# Altium footprint library CH28-2032.PcbLib: 1 footprints
Each footprint in its own frame and in the unit in brackets; x right, y up, seen from the top. Pads: shape width x height; smd on the part's side, far side on the other; paste and mask are expansions set on the pad; w line width, h text height; cw(c..) or ccw(c..) is an arc to the next point about the centre after c.
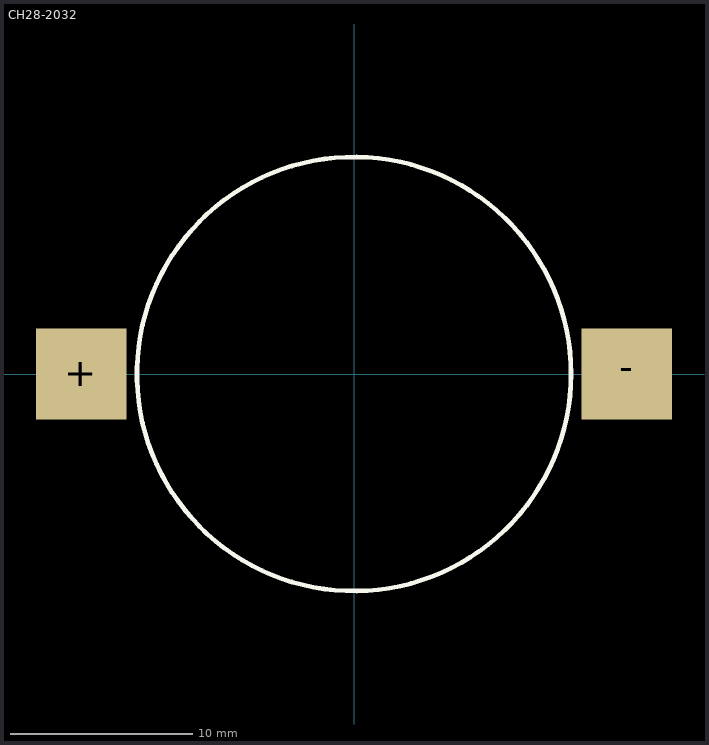
[diagram p0: the footprint, top view; thin cyan lines are the x and y axes]

## CH28-2032 [mm]
pads (2):
  rect 5x5 smd: +(-15,0) -(15,0)
Top Overlay:
  circle w0.254: c0,0 r11.938
3D body: height 5.6, standoff 0, extent -16.1,-8 16.1,8